# EAGLE library part TPS53355DQPR (library myTi_Power)
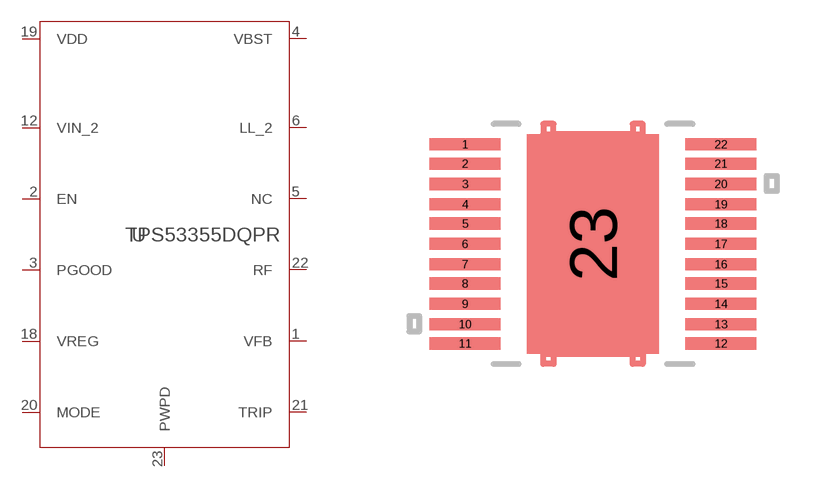
[diagram p0: symbol with the pads of R-PSON-N22; footprint R-PSON-N22]

Designator prefix -

## TPS53355DQPR (DATASHEETURL: http://www.ti.com/product/TPS53355; FREQUENCY: 300000.0; IMAX: 30.0; MANUFACTURER_NAME: Texas Instruments; MANUFACTURER_PART_NUMBER: TPS53355DQPR; MKTG_PACKAGE: TPS53355; NSID: TPS53355DQPR; PACKAGE: TPS53355; VENDOR: Texas Instruments)  [R-PSON-N22]
1  VFB  pas
2  EN  pas
3  PGOOD  pas
4  VBST  pas
5  NC  pas
6  LL_2  pas
12  VIN_2  pas
18  VREG  pas
19  VDD  pas
20  MODE  pas
21  TRIP  pas
22  RF  pas
23  PWPD  pas

## Footprint R-PSON-N22 (pad centres in mm)
smd 1.778 x 0.305: 1 -3.2,2.489; 2 -3.2,2.007; 3 -3.2,1.499; 4 -3.2,0.991; 5 -3.2,0.508; 6 -3.2,0; 7 -3.2,-0.508; 8 -3.2,-0.991; 9 -3.2,-1.499; 10 -3.2,-2.007; 11 -3.2,-2.489; 12 3.2,-2.489; 13 3.2,-2.007; 14 3.2,-1.499; 15 3.2,-0.991; 16 3.2,-0.508; 17 3.2,0; 18 3.2,0.508; 19 3.2,0.991; 20 3.2,1.499; 21 3.2,2.007; 22 3.2,2.489
smd 3.302 x 5.486: 23 0,0